# Altium schematic symbol library national-instruments.SCHLIB: 1 symbol
Pins are listed as number, name and electrical type; pins without a type are passive.

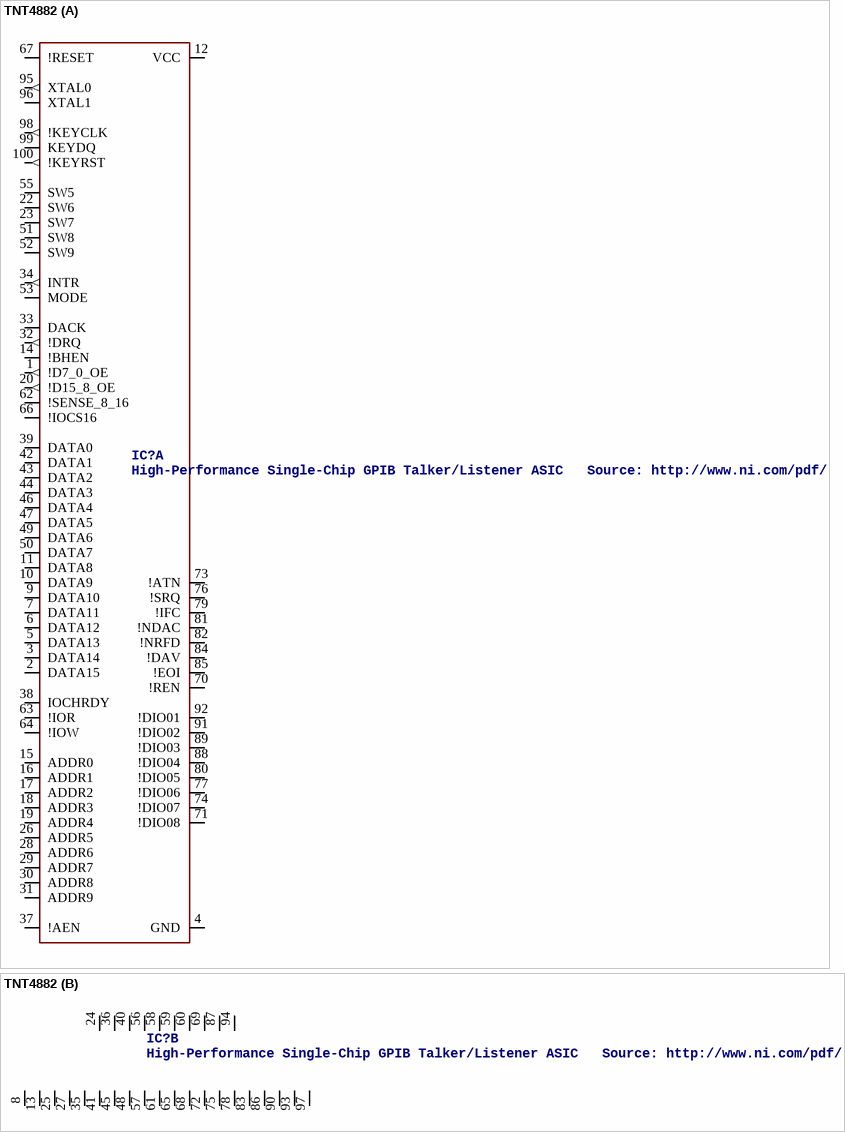
[diagram p0: symbol TNT4882]

## TNT4882
designator IC?, comment High-Performance Single-Chip GPIB Talker/Listener ASIC   Source: http://www.ni.com/pdf/products/us/0gpc763a.pdf  http://www.ni.com/pdf/products/us/4gpib702-703.pdf
OC_FARNELL: unknown; OC_NEWARK: unknown
footprint QFP100R
part A pins: 1 !D7_0_OE (out), 2 DATA15, 3 DATA14, 4 GND (power), 5 DATA13, 6 DATA12, 7 DATA11, 9 DATA10, 10 DATA9, 11 DATA8, 12 VCC (power), 14 !BHEN, 15 ADDR0, 16 ADDR1, 17 ADDR2, 18 ADDR3, 19 ADDR4, 20 !D15_8_OE (out), 22 SW6, 23 SW7, 26 ADDR5, 28 ADDR6, 29 ADDR7, 30 ADDR8, 31 ADDR9, 32 !DRQ (out), 33 DACK, 34 INTR (out), 37 !AEN, 38 IOCHRDY (oc), 39 DATA0, 42 DATA1, 43 DATA2, 44 DATA3, 46 DATA4, 47 DATA5, 49 DATA6, 50 DATA7, 51 SW8, 52 SW9, 53 MODE, 55 SW5, 62 !SENSE_8_16, 63 !IOR, 64 !IOW, 66 !IOCS16 (oc), 67 !RESET, 70 !REN, 71 !DIO08, 73 !ATN, 74 !DIO07, 76 !SRQ, 77 !DIO06, 79 !IFC, 80 !DIO05, 81 !NDAC, 82 !NRFD, 84 !DAV, 85 !EOI, 88 !DIO04, 89 !DIO03, 91 !DIO02, 92 !DIO01, 95 XTAL0 (out), 96 XTAL1, 98 !KEYCLK (out), 99 KEYDQ, 100 !KEYRST (out)
part B pins: 8 GND@1 (power), 13 GND@2 (power), 24 VCC@1 (power), 25 GND@3 (power), 27 GND@4 (power), 35 GND@5 (power), 36 VCC@2 (power), 40 VCC@3 (power), 41 GND@6 (power), 45 GND@7 (power), 48 GND@8 (power), 56 VCC@4 (power), 57 GND@9 (power), 58 VCC@5 (power), 59 VCC@6 (power), 60 VCC@7 (power), 61 GND@10 (power), 65 GND@11 (power), 68 GND@12 (power), 69 VCC@8 (power), 72 GND@13 (power), 75 GND@14 (power), 78 GND@15 (power), 83 GND@16 (power), 86 GND@17 (power), 87 VCC@9 (power), 90 GND@18 (power), 93 GND@19 (power), 94 VCC@10 (power), 97 GND@20 (power)